# Altium integrated library Linear Technology Power Management Power-Over-Ethernet (PoE) Interface Controllers.IntLib: 174 symbols (part 11 of 16)
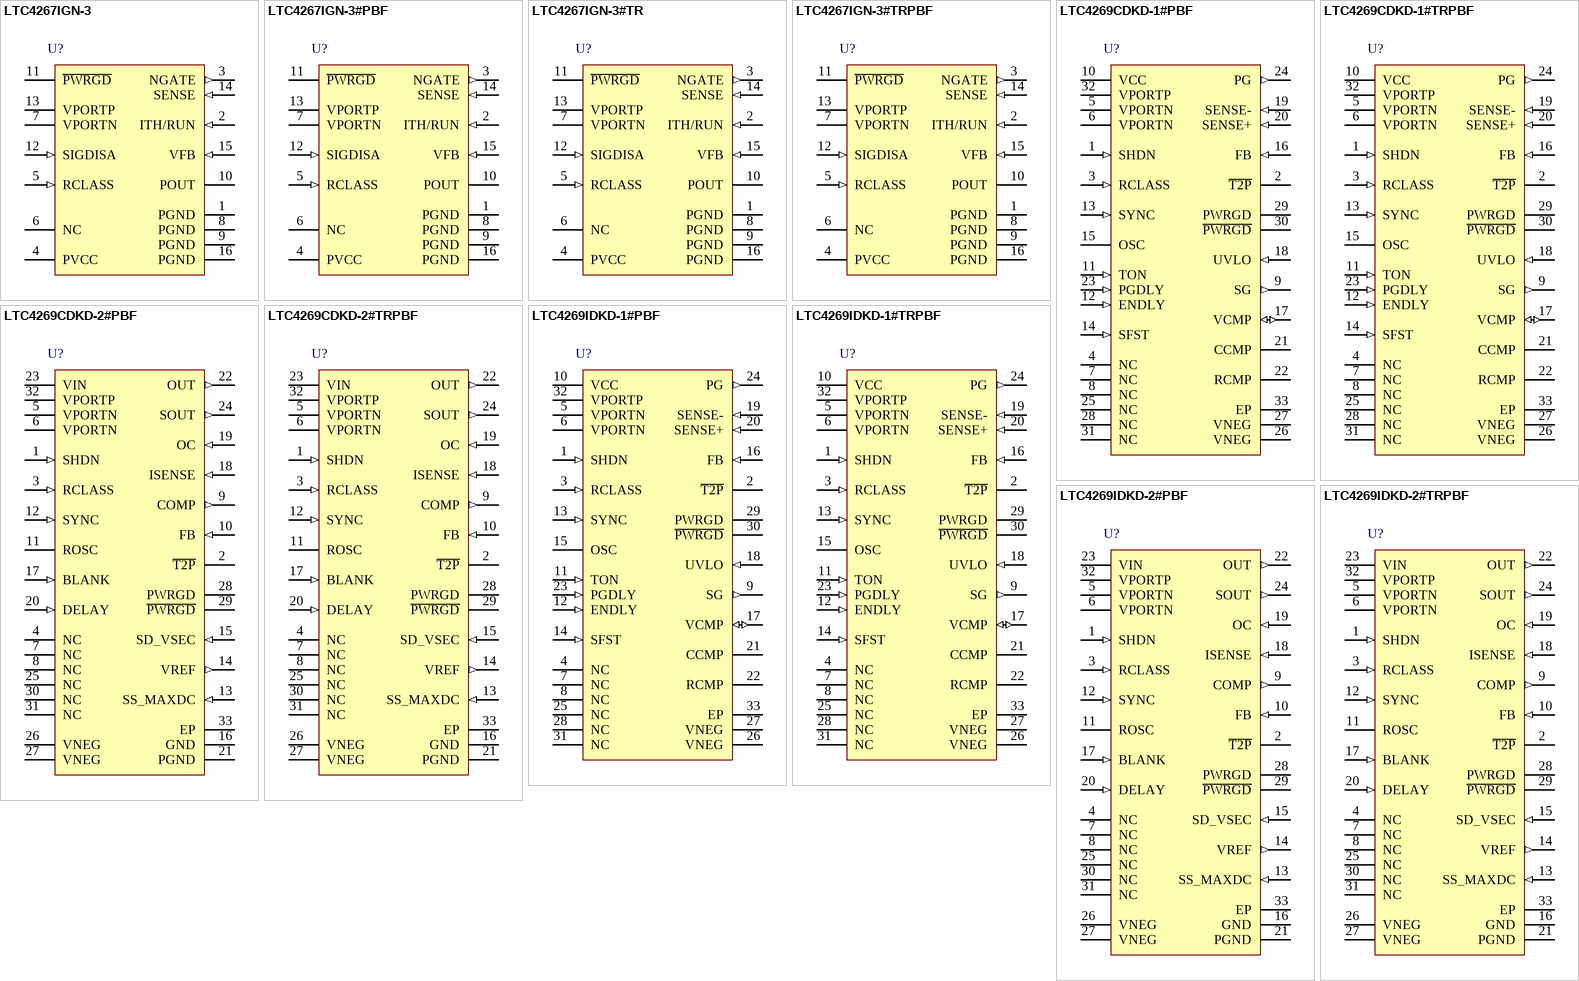
[diagram p18: symbols LTC4267IGN-3 to LTC4269IDKD-2#TRPBF]

## LTC4269IDKD-1#PBF
designator U?
IEEE 802.3at PD with Synchronous No-Opto Flyback Controller, 32-pin SON (DKD-32), -40 to 85 degC, Pb-Free; Manufacturer: Linear Technology; PartNumber: LTC4269IDKD-1#PBF; Channels(#): 1; Extended Temp: C, I; I2C Interface: yes; Max Power(W): 25.5; PoE Type: 2; DatasheetVersion: Rev. C; PackageVersion: Rev. A, 06/2010; PackageReference: DKD-32; PackageDescription: 32-Pin Plastic DFN, Body 7 x 4 mm, Pitch 0.4 mm; Supplier 1: Digi-Key; Supplier Part Number 1: LTC4269IDKD-1#PBF-ND; Supplier 2: Farnell; Supplier Part Number 2: 1761211; Supplier 3: Newark; Supplier Part Number 3: 24R3329; PSE/PD: PD; RoHS: TRUE; Mounting Technology: Surface Mount; Code_JEDEC: M0-229; ComponentLink1Description: Manufacturer URL; ComponentLink1URL: http://www.linear.com/; ComponentLink2Description: Datasheet; ComponentLink2URL: http://cds.linear.com/docs/en/datasheet/42691fc.pdf; ComponentLink3Description: Package Specification; ComponentLink3URL: http://cds.linear.com/docs/en/packaging/DFN_32_05-08-1734.pdf
footprint LT-DKD-32_V (SON, 32-Leads, Body 7x4mm, Pitch 0.4mm, Thermal Pad 6.43x2.65mm)
pins: 1 SHDN (in) "Shutdown Input. Use this pin for auxiliary power application. Drive SHDN high to disable the PD interface operation and corrupt the signature resistance. If unused, tie SHDN to VPORTN.", 2 ~{T2P} (oc) "Type-2 PSE Indicator, Open-Drain. Low impedance indicates the presence of a Type-2 PSE.", 3 RCLASS (in) "Class Select Input. Connect a resistor between RCLASS and VPORTN to set the classification load current. (see Table 2).", 4 NC "No Connect.", 5 VPORTN (power) "Power Input. Tie to the PD input through the diode bridge. Pins 5 and 6 must be electrically tied together at the package.", 6 VPORTN (power) "Power Input. Tie to the PD input through the diode bridge. Pins 5 and 6 must be electrically tied together at the package.", 7 NC "No Connect.", 8 NC "No Connect.", 9 SG (out) "Synchronous Gate Drive Output. This pin provides an output signal for a secondary-side synchronous rectifi er. Large dynamic currents may fl ow during voltage transitions. See the Applications Information section for details.", 10 VCC (power) "Supply Voltage Pin. Bypass this pin to GND with a 4.7uF, or more, capacitor. This pin has a 19.5V clamp to ground. VCC has an undervoltage lockout function that turns the part on when VCC is approximately 15.3V and off at 9.(See Datasheet)", 11 TON (in) "Pin for external programming resistor to set the minimum time that the primary switch is on for each cycle. Minimum turn-on facilitates the isolated feedback method. See the Applications Information section for details.", 12 ENDLY (in) "Pin for external programming resistor to set enable delay time. The enable delay time disables the feedback amplifi er for a fi xed time after the turn-off of the primary-side MOSFET. This allows the leakage inductance (See Datasheet)", 13 SYNC (in) "External Sync Input. This pin is used to synchronize the internal oscillator with an external clock. The positive edge of the clock causes the oscillator to discharge causing PG to go low (off) and SG high (on). The sync (See Datasheet)", 14 SFST (in) "Soft-Start. This pin, in conjunction with a capacitor (CSFST) to GND, controls the ramp-up of peak primary current through the sense resistor. It is also used to control converter inrush at start-up. The SFST clamps the VCMP (See Datasheet)", 15 OSC "Oscillator. This pin, in conjunction with an external capacitor (COSC) to GND, defi nes the controller oscillator frequency. The frequency is approximately 100kHz x 100/COSC (pF).", 16 FB (in) "Feedback Amplifi er Input. Feedback is usually sensed via a third winding and enabled during the fl yback period. This pin also sinks additional current to compensate for load current variation as set by the RCMP pin. Keep (See Datasheet)", 17 VCMP (io) "Frequency Compensation Control. VCMP is used for frequency compensation of the switcher control loop. It is the output of the feedback amplifi er and the input to the current comparator. Switcher frequency compensation (See Datasheet)", 18 UVLO (in) "Undervoltage Lockout. A resistive divider from VPORTP to this pin sets an undervoltage lockout based upon VPORTP level (not VCC). When the UVLO pin is below its threshold, the gate drives are disabled, but the part draws its (See Datasheet)", 19 SENSE- (in) "Current Sense Inputs. These pins are used to measure primary-side switch current through an external sense resistor. Peak primary-side current is used in the converter control loop. Make Kelvin connections to the sense (See Datasheet)", 20 SENSE+ (in) "Current Sense Inputs. These pins are used to measure primary-side switch current through an external sense resistor. Peak primary-side current is used in the converter control loop. Make Kelvin connections to the sense (See Datasheet)", 21 CCMP "Load Compensation Capacitive Control. Connect a capacitor from CCMP to GND in order to reduce the effects of parasitic resistances in the feedback sensing path. A 0.1uF ceramic capacitor suffi ces for most applications. (See Datasheet)", 22 RCMP "Load Compensation Resistive Control. Connect a resistor from RCMP to GND in order to compensate for parasitic resistances in the feedback sensing path. In less demanding applications, this resistor is not needed and this pin (See Datasheet)", 23 PGDLY (in) "Primary Gate Delay Control. Connect an external programming resistor (RPGDLY) to set delay from synchronous gate turn-off to primary gate turn-on. See the Applications Information section for details.", 24 PG (out) "Primary Gate Drive. PG is the gate drive pin for the primary-side MOSFET switch. Large dynamic currents flow during voltage transitions. See the Applications Information section for details.", 25 NC "No Connect.", 26 VNEG (power) "System Negative Rail. Connects VNEG to VPORTN through an internal power MOSFET. Pin 26 and Pin 27 must be electrically tied together at the package.", 27 VNEG (power) "System Negative Rail. Connects VNEG to VPORTN through an internal power MOSFET. Pin 26 and Pin 27 must be electrically tied together at the package.", 28 NC "No Connect.", 29 PWRGD (hiz) "Power Good Output, Open-Collector. High impedence signals power-up completion. PWRGD is referenced to VNEG and features a 14V clamp.", 30 ~{PWRGD} (oc) "Complementary Power Good Output, Open-Drain. Low impedance signals power-up completion. P\W\R\GD\ is referenced to VPORTN.", 31 NC "No Connect.", 32 VPORTP (power) "Positive Power Input. Tie to the input port power through the input diode bridge.", 33 EP (power) "Ground. This is the negative rail connection for both signal ground and gate driver grounds of the fl yback controller. This pin should be connected to VNEG."

## LTC4269IDKD-1#TRPBF
designator U?
IEEE 802.3at PD with Synchronous No-Opto Flyback Controller, 32-pin SON (DKD-32), -40 to 85 degC, Pb-Free, Tape and Reel; Manufacturer: Linear Technology; PartNumber: LTC4269IDKD-1#TRPBF; Channels(#): 1; Extended Temp: C, I; I2C Interface: yes; Max Power(W): 25.5; PoE Type: 2; DatasheetVersion: Rev. C; PackageVersion: Rev. A, 06/2010; PackageReference: DKD-32; PackageDescription: 32-Pin Plastic DFN, Body 7 x 4 mm, Pitch 0.4 mm; Supplier 1: Digi-Key; Supplier Part Number 1: LTC4269IDKD-1#TRPBF-ND; Supplier 2: Newark; Supplier Part Number 2: 25R2526; Packing: Tape and Reel; PSE/PD: PD; RoHS: TRUE; Mounting Technology: Surface Mount; Code_JEDEC: M0-229; ComponentLink1Description: Manufacturer URL; ComponentLink1URL: http://www.linear.com/; ComponentLink2Description: Datasheet; ComponentLink2URL: http://cds.linear.com/docs/en/datasheet/42691fc.pdf; ComponentLink3Description: Package Specification; ComponentLink3URL: http://cds.linear.com/docs/en/packaging/DFN_32_05-08-1734.pdf
footprint LT-DKD-32_V (SON, 32-Leads, Body 7x4mm, Pitch 0.4mm, Thermal Pad 6.43x2.65mm)
pins: 1 SHDN (in) "Shutdown Input. Use this pin for auxiliary power application. Drive SHDN high to disable the PD interface operation and corrupt the signature resistance. If unused, tie SHDN to VPORTN.", 2 ~{T2P} (oc) "Type-2 PSE Indicator, Open-Drain. Low impedance indicates the presence of a Type-2 PSE.", 3 RCLASS (in) "Class Select Input. Connect a resistor between RCLASS and VPORTN to set the classification load current. (see Table 2).", 4 NC "No Connect.", 5 VPORTN (power) "Power Input. Tie to the PD input through the diode bridge. Pins 5 and 6 must be electrically tied together at the package.", 6 VPORTN (power) "Power Input. Tie to the PD input through the diode bridge. Pins 5 and 6 must be electrically tied together at the package.", 7 NC "No Connect.", 8 NC "No Connect.", 9 SG (out) "Synchronous Gate Drive Output. This pin provides an output signal for a secondary-side synchronous rectifi er. Large dynamic currents may fl ow during voltage transitions. See the Applications Information section for details.", 10 VCC (power) "Supply Voltage Pin. Bypass this pin to GND with a 4.7uF, or more, capacitor. This pin has a 19.5V clamp to ground. VCC has an undervoltage lockout function that turns the part on when VCC is approximately 15.3V and off at 9.(See Datasheet)", 11 TON (in) "Pin for external programming resistor to set the minimum time that the primary switch is on for each cycle. Minimum turn-on facilitates the isolated feedback method. See the Applications Information section for details.", 12 ENDLY (in) "Pin for external programming resistor to set enable delay time. The enable delay time disables the feedback amplifi er for a fi xed time after the turn-off of the primary-side MOSFET. This allows the leakage inductance (See Datasheet)", 13 SYNC (in) "External Sync Input. This pin is used to synchronize the internal oscillator with an external clock. The positive edge of the clock causes the oscillator to discharge causing PG to go low (off) and SG high (on). The sync (See Datasheet)", 14 SFST (in) "Soft-Start. This pin, in conjunction with a capacitor (CSFST) to GND, controls the ramp-up of peak primary current through the sense resistor. It is also used to control converter inrush at start-up. The SFST clamps the VCMP (See Datasheet)", 15 OSC "Oscillator. This pin, in conjunction with an external capacitor (COSC) to GND, defi nes the controller oscillator frequency. The frequency is approximately 100kHz x 100/COSC (pF).", 16 FB (in) "Feedback Amplifi er Input. Feedback is usually sensed via a third winding and enabled during the fl yback period. This pin also sinks additional current to compensate for load current variation as set by the RCMP pin. Keep (See Datasheet)", 17 VCMP (io) "Frequency Compensation Control. VCMP is used for frequency compensation of the switcher control loop. It is the output of the feedback amplifi er and the input to the current comparator. Switcher frequency compensation (See Datasheet)", 18 UVLO (in) "Undervoltage Lockout. A resistive divider from VPORTP to this pin sets an undervoltage lockout based upon VPORTP level (not VCC). When the UVLO pin is below its threshold, the gate drives are disabled, but the part draws its (See Datasheet)", 19 SENSE- (in) "Current Sense Inputs. These pins are used to measure primary-side switch current through an external sense resistor. Peak primary-side current is used in the converter control loop. Make Kelvin connections to the sense (See Datasheet)", 20 SENSE+ (in) "Current Sense Inputs. These pins are used to measure primary-side switch current through an external sense resistor. Peak primary-side current is used in the converter control loop. Make Kelvin connections to the sense (See Datasheet)", 21 CCMP "Load Compensation Capacitive Control. Connect a capacitor from CCMP to GND in order to reduce the effects of parasitic resistances in the feedback sensing path. A 0.1uF ceramic capacitor suffi ces for most applications. (See Datasheet)", 22 RCMP "Load Compensation Resistive Control. Connect a resistor from RCMP to GND in order to compensate for parasitic resistances in the feedback sensing path. In less demanding applications, this resistor is not needed and this pin (See Datasheet)", 23 PGDLY (in) "Primary Gate Delay Control. Connect an external programming resistor (RPGDLY) to set delay from synchronous gate turn-off to primary gate turn-on. See the Applications Information section for details.", 24 PG (out) "Primary Gate Drive. PG is the gate drive pin for the primary-side MOSFET switch. Large dynamic currents flow during voltage transitions. See the Applications Information section for details.", 25 NC "No Connect.", 26 VNEG (power) "System Negative Rail. Connects VNEG to VPORTN through an internal power MOSFET. Pin 26 and Pin 27 must be electrically tied together at the package.", 27 VNEG (power) "System Negative Rail. Connects VNEG to VPORTN through an internal power MOSFET. Pin 26 and Pin 27 must be electrically tied together at the package.", 28 NC "No Connect.", 29 PWRGD (hiz) "Power Good Output, Open-Collector. High impedence signals power-up completion. PWRGD is referenced to VNEG and features a 14V clamp.", 30 ~{PWRGD} (oc) "Complementary Power Good Output, Open-Drain. Low impedance signals power-up completion. P\W\R\GD\ is referenced to VPORTN.", 31 NC "No Connect.", 32 VPORTP (power) "Positive Power Input. Tie to the input port power through the input diode bridge.", 33 EP (power) "Ground. This is the negative rail connection for both signal ground and gate driver grounds of the fl yback controller. This pin should be connected to VNEG."

## LTC4269IDKD-2#PBF
designator U?
IEEE 802.3at High Power PD and Synchronous Forward Controller with AUX Support, 32-pin SON (DKD-32), -40 to 85 degC, Pb-Free; Manufacturer: Linear Technology; PartNumber: LTC4269IDKD-2#PBF; Channels(#): 1; Extended Temp: C, I; I2C Interface: yes; Max Power(W): 25.5; PoE Type: 2; DatasheetVersion: Rev. B; PackageVersion: Rev. A, 06/2010; PackageReference: DKD-32; PackageDescription: 32-Pin Plastic DFN, Body 7 x 4 mm, Pitch 0.4 mm; Supplier 1: Digi-Key; Supplier Part Number 1: LTC4269IDKD-2#PBF-ND; Supplier 2: Farnell; Supplier Part Number 2: 1761212; Supplier 3: Newark; Supplier Part Number 3: 24R3330; PSE/PD: PD; RoHS: TRUE; Mounting Technology: Surface Mount; Code_JEDEC: M0-229; ComponentLink1Description: Manufacturer URL; ComponentLink1URL: http://www.linear.com/; ComponentLink2Description: Datasheet; ComponentLink2URL: http://cds.linear.com/docs/en/datasheet/42692fb.pdf; ComponentLink3Description: Package Specification; ComponentLink3URL: http://cds.linear.com/docs/en/packaging/DFN_32_05-08-1734.pdf
footprint LT-DKD-32_V (SON, 32-Leads, Body 7x4mm, Pitch 0.4mm, Thermal Pad 6.43x2.65mm)
pins: 1 SHDN (in) "Shutdown Input. Use this pin for auxiliary power application. Drive SHDN high to disable LTC4269-2 operation and corrupt the signature resistance. If unused, tie SHDN to VPORTN.", 2 ~{T2P} (oc) "Type-2 PSE Indicator, Open-Drain. Low impedance indicates the presence of a Type-2 PSE.", 3 RCLASS (in) "Class Select Input. Connect a resistor between RCLASS and VPORTN to set the classification load current.", 4 NC "No Connect.", 5 VPORTN (power) "Power Input. Tie to the PD input through the diode bridge. Pins 5 and 6 must be electrically tied together at the package.", 6 VPORTN (power) "Power Input. Tie to the PD input through the diode bridge. Pins 5 and 6 must be electrically tied together at the package.", 7 NC "No Connect.", 8 NC "No Connect.", 9 COMP (out) "Output Pin of the Error Amplifier. The error amplifier is an op amp, allowing various compensation networks to be connected between the COMP pin and FB pin for optimum transient response in a nonisolated supply. The voltage (See Datasheet)", 10 FB (in) "In a nonisolated supply, FB monitors the output voltage via an external resistor divider and is compared with an internal 1.23V reference by the error amplifier. FB connected to VREF disables error amplifier output.", 11 ROSC "A resistor to GND programs the operating frequency of the IC between 100kHz and 500kHz. Nominal voltage on the ROSC pin is 1.0V.", 12 SYNC (in) "Used to synchronize the internal oscillator to an external signal. It is directly logic compatible and can be driven with any signal between 10% and 90% duty cycle. If unused, the pin should be connected to GND.", 13 SS_MAXDC (in) "The external resistor divider from VREF sets the maximum duty cycle clamp (SS_MAXDC = 1.84V, SD_VSEC = 1.32V gives 72% duty cycle). Capacitor on SS_MAXDC pin in combination with external resistor divider sets soft-start (See Datasheet)", 14 VREF (out) "The output of an internal 2.5V reference which supplies internal control circuitry. Capable of sourcing up to 2.5mA drive for external use. Bypass to GND with a 0.1uF ceramic capacitor.", 15 SD_VSEC (in) "The SD_VSEC pin, when pulled below its accurate 1.32V threshold, is used to turn off the IC and reduce current drain from VIN. The SD_VSEC pin is connected to system input voltage through a resistor divider to define (See Datasheet)", 16 GND (power) "Analog Ground. Tie to VNEG.", 17 BLANK (in) "A resistor to GND adjusts the extended blanking period of the overcurrent and current sense amplifier outputs during FET turn-on-to prevent false current limit trip. Increasing the resistor value increases the blanking (See Datasheet)", 18 ISENSE (in) "The Current Sense Input for the Control Loop. Connect this pin to the sense resistor in the source of the external power MOSFET. A resistor in series with the ISENSE pin programs slope compensation.", 19 OC (in) "OC is an accurate 107mV threshold, independent of duty cycle, for overcurrent detection and trigger of soft-start. Connect this pin directly to the sense resistor in the source of the external power MOSFET.", 20 DELAY (in) "A resistor to GND adjusts the delay period between SOUT rising edge and OUT rising edge. Used to maximize efficiency in forward converter applications by adjusting the timing. Increasing the resistor value increases the (See Datasheet)", 21 PGND (power) "Power Ground. Carries the gate driver’s return current. Tie to VNEG.", 22 OUT (out) "Drives the gate of an N-channel MOSFET between 0V and VIN with a maximum limit of 13V on OUT pin set by an internal clamp. Active pull-off exists in shutdown (see electrical specification).", 23 VIN (power) "Input Supply for the Power Supply Controller. It must be closely decoupled to GND. An internal undervoltage lockout threshold exists for VIN at approximately 14.25V on and 8.75V off.", 24 SOUT (out) "Switched Output in Phase with OUT Pin. Provides sync signal for control of secondary-side FETs in forward converter applications requiring highly efficient synchronous rectification. SOUT is actively clamped to 12V. Active (See Datasheet)", 25 NC "No Connect.", 26 VNEG (power) "Power Output. Connects the PoE return line to the power supply through the internal Hot Swap power MOSFET. Pins 26 and 27 must be electrically tied together at the package.", 27 VNEG (power) "Power Output. Connects the PoE return line to the power supply through the internal Hot Swap power MOSFET. Pins 26 and 27 must be electrically tied together at the package.", 28 PWRGD (hiz) "Active High Power Good Output, Open Collector. Signals that the internal Hot Swap MOSFET is on. High Impedance indicates power is good. PWRGD is referenced to VNEG and is low impedance during inrush and in the event of (See Datasheet)", 29 ~{PWRGD} (hiz) "Active Low Power Good Output, Open Drain. Signals that the internal Hot Swap MOSFET is on. Low Impedance indicates power is good. P\W\R\G\D\ is referenced to VPORTN and is high impedance during inrush and in the event of (See Datasheet)", 30 NC "No Connect.", 31 NC "No Connect.", 32 VPORTP (power) "Input Voltage Positive Rail. This pin is connected to the PD’s positive rail.", 33 EP (power) "Tie to GND and PCB heat sink."

## LTC4269IDKD-2#TRPBF
designator U?
IEEE 802.3at High Power PD and Synchronous Forward Controller with AUX Support, 32-pin SON (DKD-32), -40 to 85 degC, Pb-Free, Tape and Reel; Manufacturer: Linear Technology; PartNumber: LTC4269IDKD-2#TRPBF; Channels(#): 1; Extended Temp: C, I; I2C Interface: yes; Max Power(W): 25.5; PoE Type: 2; DatasheetVersion: Rev. B; PackageVersion: Rev. A, 06/2010; PackageReference: DKD-32; PackageDescription: 32-Pin Plastic DFN, Body 7 x 4 mm, Pitch 0.4 mm; Supplier 1: Digi-Key; Supplier Part Number 1: LTC4269IDKD-2#TRPBF-ND; Packing: Tape and Reel; PSE/PD: PD; RoHS: TRUE; Mounting Technology: Surface Mount; Code_JEDEC: M0-229; ComponentLink1Description: Manufacturer URL; ComponentLink1URL: http://www.linear.com/; ComponentLink2Description: Datasheet; ComponentLink2URL: http://cds.linear.com/docs/en/datasheet/42692fb.pdf; ComponentLink3Description: Package Specification; ComponentLink3URL: http://cds.linear.com/docs/en/packaging/DFN_32_05-08-1734.pdf
footprint LT-DKD-32_V (SON, 32-Leads, Body 7x4mm, Pitch 0.4mm, Thermal Pad 6.43x2.65mm)
pins: 1 SHDN (in) "Shutdown Input. Use this pin for auxiliary power application. Drive SHDN high to disable LTC4269-2 operation and corrupt the signature resistance. If unused, tie SHDN to VPORTN.", 2 ~{T2P} (oc) "Type-2 PSE Indicator, Open-Drain. Low impedance indicates the presence of a Type-2 PSE.", 3 RCLASS (in) "Class Select Input. Connect a resistor between RCLASS and VPORTN to set the classification load current.", 4 NC "No Connect.", 5 VPORTN (power) "Power Input. Tie to the PD input through the diode bridge. Pins 5 and 6 must be electrically tied together at the package.", 6 VPORTN (power) "Power Input. Tie to the PD input through the diode bridge. Pins 5 and 6 must be electrically tied together at the package.", 7 NC "No Connect.", 8 NC "No Connect.", 9 COMP (out) "Output Pin of the Error Amplifier. The error amplifier is an op amp, allowing various compensation networks to be connected between the COMP pin and FB pin for optimum transient response in a nonisolated supply. The voltage (See Datasheet)", 10 FB (in) "In a nonisolated supply, FB monitors the output voltage via an external resistor divider and is compared with an internal 1.23V reference by the error amplifier. FB connected to VREF disables error amplifier output.", 11 ROSC "A resistor to GND programs the operating frequency of the IC between 100kHz and 500kHz. Nominal voltage on the ROSC pin is 1.0V.", 12 SYNC (in) "Used to synchronize the internal oscillator to an external signal. It is directly logic compatible and can be driven with any signal between 10% and 90% duty cycle. If unused, the pin should be connected to GND.", 13 SS_MAXDC (in) "The external resistor divider from VREF sets the maximum duty cycle clamp (SS_MAXDC = 1.84V, SD_VSEC = 1.32V gives 72% duty cycle). Capacitor on SS_MAXDC pin in combination with external resistor divider sets soft-start (See Datasheet)", 14 VREF (out) "The output of an internal 2.5V reference which supplies internal control circuitry. Capable of sourcing up to 2.5mA drive for external use. Bypass to GND with a 0.1uF ceramic capacitor.", 15 SD_VSEC (in) "The SD_VSEC pin, when pulled below its accurate 1.32V threshold, is used to turn off the IC and reduce current drain from VIN. The SD_VSEC pin is connected to system input voltage through a resistor divider to define (See Datasheet)", 16 GND (power) "Analog Ground. Tie to VNEG.", 17 BLANK (in) "A resistor to GND adjusts the extended blanking period of the overcurrent and current sense amplifier outputs during FET turn-on-to prevent false current limit trip. Increasing the resistor value increases the blanking (See Datasheet)", 18 ISENSE (in) "The Current Sense Input for the Control Loop. Connect this pin to the sense resistor in the source of the external power MOSFET. A resistor in series with the ISENSE pin programs slope compensation.", 19 OC (in) "OC is an accurate 107mV threshold, independent of duty cycle, for overcurrent detection and trigger of soft-start. Connect this pin directly to the sense resistor in the source of the external power MOSFET.", 20 DELAY (in) "A resistor to GND adjusts the delay period between SOUT rising edge and OUT rising edge. Used to maximize efficiency in forward converter applications by adjusting the timing. Increasing the resistor value increases the (See Datasheet)", 21 PGND (power) "Power Ground. Carries the gate driver’s return current. Tie to VNEG.", 22 OUT (out) "Drives the gate of an N-channel MOSFET between 0V and VIN with a maximum limit of 13V on OUT pin set by an internal clamp. Active pull-off exists in shutdown (see electrical specification).", 23 VIN (power) "Input Supply for the Power Supply Controller. It must be closely decoupled to GND. An internal undervoltage lockout threshold exists for VIN at approximately 14.25V on and 8.75V off.", 24 SOUT (out) "Switched Output in Phase with OUT Pin. Provides sync signal for control of secondary-side FETs in forward converter applications requiring highly efficient synchronous rectification. SOUT is actively clamped to 12V. Active (See Datasheet)", 25 NC "No Connect.", 26 VNEG (power) "Power Output. Connects the PoE return line to the power supply through the internal Hot Swap power MOSFET. Pins 26 and 27 must be electrically tied together at the package.", 27 VNEG (power) "Power Output. Connects the PoE return line to the power supply through the internal Hot Swap power MOSFET. Pins 26 and 27 must be electrically tied together at the package.", 28 PWRGD (hiz) "Active High Power Good Output, Open Collector. Signals that the internal Hot Swap MOSFET is on. High Impedance indicates power is good. PWRGD is referenced to VNEG and is low impedance during inrush and in the event of (See Datasheet)", 29 ~{PWRGD} (hiz) "Active Low Power Good Output, Open Drain. Signals that the internal Hot Swap MOSFET is on. Low Impedance indicates power is good. P\W\R\G\D\ is referenced to VPORTN and is high impedance during inrush and in the event of (See Datasheet)", 30 NC "No Connect.", 31 NC "No Connect.", 32 VPORTP (power) "Input Voltage Positive Rail. This pin is connected to the PD’s positive rail.", 33 EP (power) "Tie to GND and PCB heat sink."

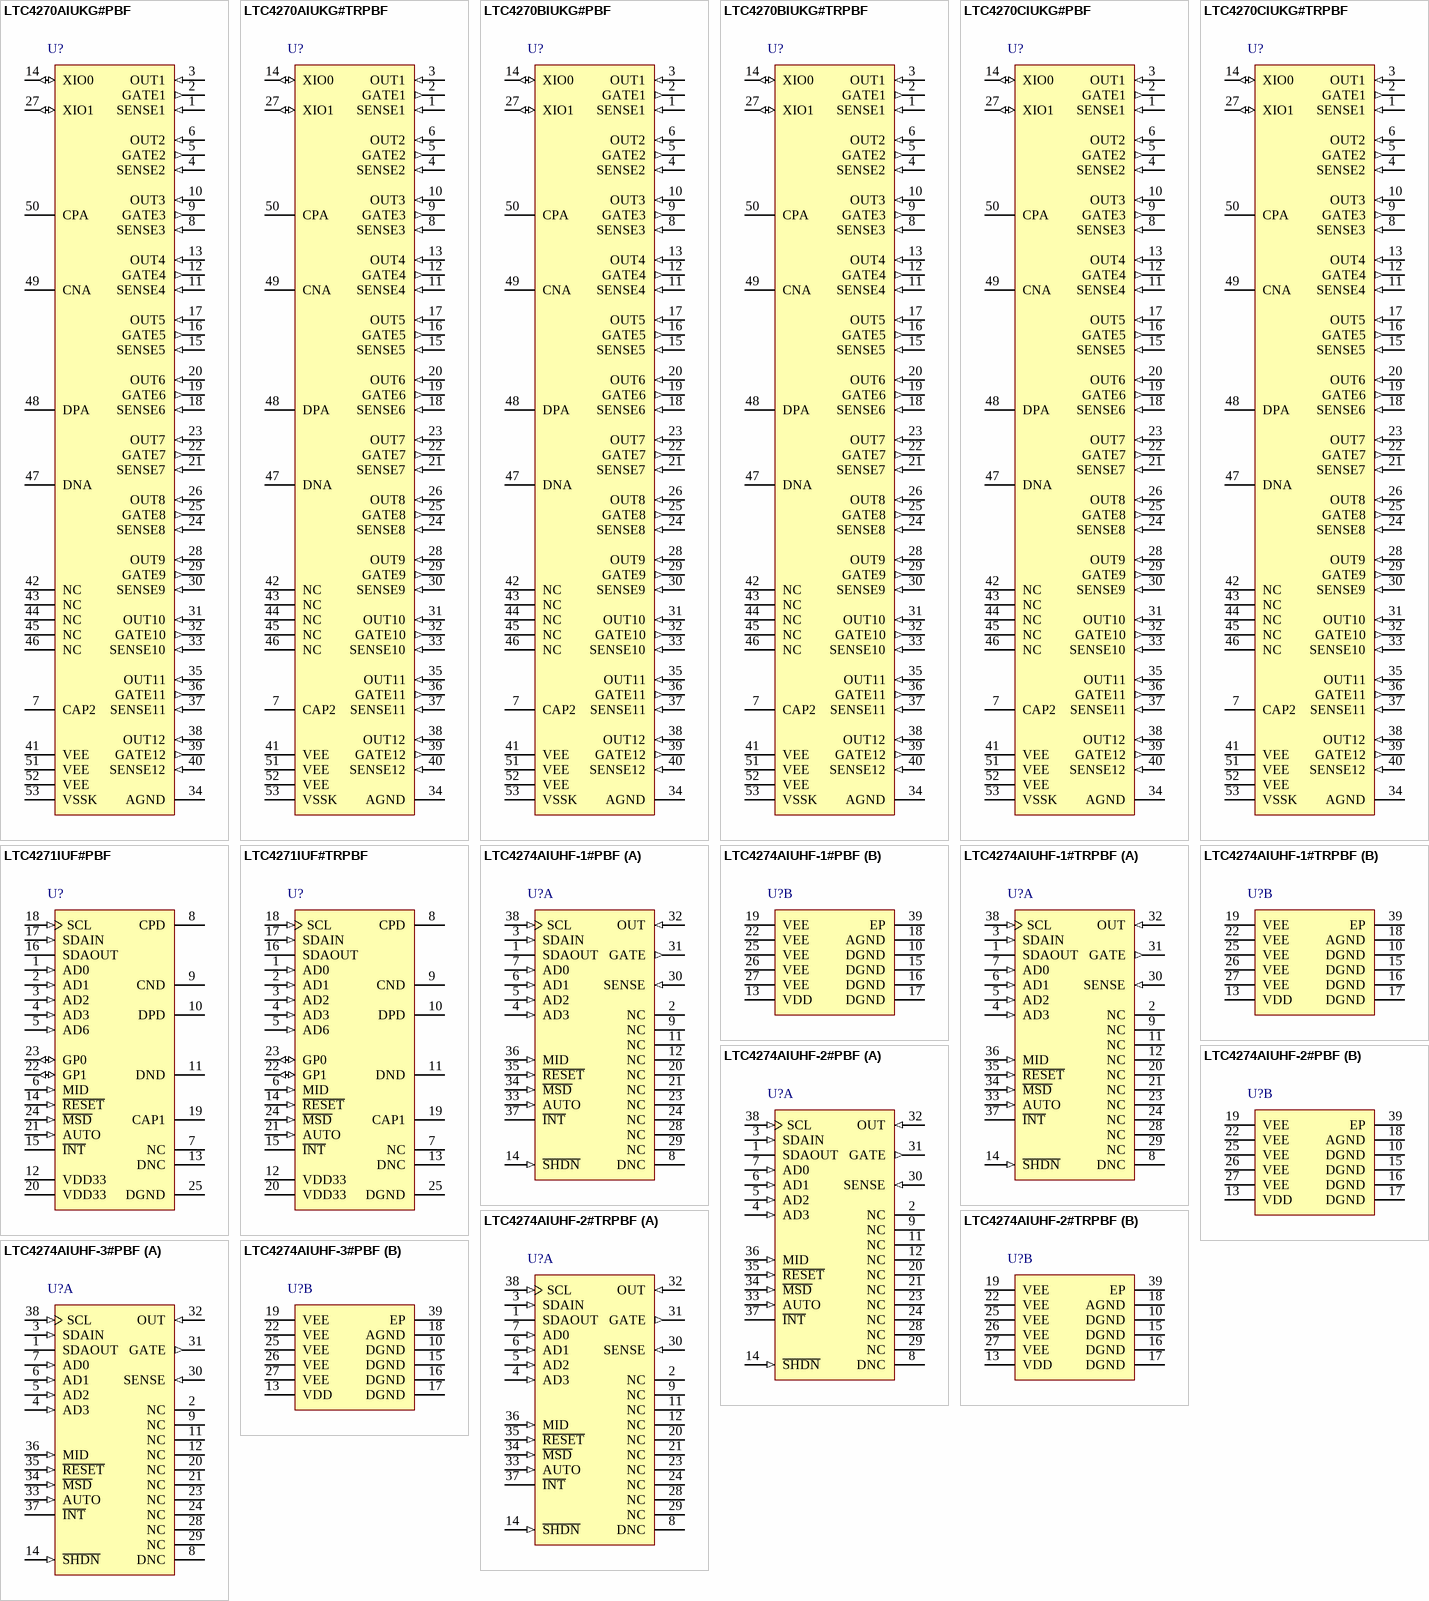
[diagram p6: symbols LTC4270AIUKG#PBF to LTC4274AIUHF-3#PBF]

## LTC4270AIUKG#PBF
designator U?
12-Port PoE / PoE+ / LTPoE++ PSE Controller, 52-pin QFN (UKG-52), -40 to 85 degC, Pb-Free; Manufacturer: Linear Technology; PartNumber: LTC4270AIUKG#PBF; Channels(#): 12; Extended Temp: I; I2C Interface: yes; Max Power(W): 90; PoE Type: 1, 2, LTPoE++; DatasheetVersion: Rev. C; PackageVersion: Rev. Ø, 06/2010; PackageReference: UKG-52; PackageDescription: 52-Pin Plastic QFN, Body 8 x 7 mm, Pitch 0.5 mm; Supplier 1: Digi-Key; Supplier Part Number 1: LTC4270AIUKG#PBF-ND; Supplier 2: Farnell; Supplier Part Number 2: 2293150; Supplier 3: Newark; Supplier Part Number 3: 59T5708; PSE/PD: PSE; RoHS: TRUE; Mounting Technology: Surface Mount; ComponentLink1Description: Manufacturer URL; ComponentLink1URL: http://www.linear.com/; ComponentLink2Description: Datasheet; ComponentLink2URL: http://cds.linear.com/docs/en/datasheet/42701fc.pdf; ComponentLink3Description: Package Specification; ComponentLink3URL: http://cds.linear.com/docs/en/packaging/QFN_52_05-08-1729.pdf
footprint LT-UKG-52_N (QFN, 52-Leads, Body 8.1x7.1mm, Pitch 0.5mm, Thermal Pad 6.45x5.41mm, IPC Medium Density)
footprint LT-UKG-52_L (QFN, 52-Leads, Body 8.1x7.1mm, Pitch 0.5mm, Thermal Pad 6.45x5.41mm, IPC High Density)
footprint LT-UKG-52_M (QFN, 52-Leads, Body 8.1x7.1mm, Pitch 0.5mm, Thermal Pad 6.45x5.41mm, IPC Low Density)
pins: 1 SENSE1 (in) "Port n Current Sense Input. SENSEn monitors the external MOSFET current via a 0.5ohm or 0.25ohm sense resistor between SENSEn and VEE. Whenever the voltage across the sense resistor exceeds the overcurrent detection (See Datasheet)", 2 GATE1 (out) "Port n Gate Drive. GATEn should be connected to the gate of the external MOSFET for port n. When the MOSFET is turned on, the gate voltage is driven to 12V (typ) above VEE. During a current limit condition, the voltage at (See Datasheet)", 3 OUT1 (in) "Port n Output Voltage Monitor. OUTn should be connected to the output port. A current limit foldback circuit limits the power dissipation in the external MOSFET by reducing the current limit threshold when the (See Datasheet)", 4 SENSE2 (in) "Port n Current Sense Input. SENSEn monitors the external MOSFET current via a 0.5ohm or 0.25ohm sense resistor between SENSEn and VEE. Whenever the voltage across the sense resistor exceeds the overcurrent detection (See Datasheet)", 5 GATE2 (out) "Port n Gate Drive. GATEn should be connected to the gate of the external MOSFET for port n. When the MOSFET is turned on, the gate voltage is driven to 12V (typ) above VEE. During a current limit condition, the voltage at (See Datasheet)", 6 OUT2 (in) "Port n Output Voltage Monitor. OUTn should be connected to the output port. A current limit foldback circuit limits the power dissipation in the external MOSFET by reducing the current limit threshold when the (See Datasheet)", 7 CAP2 "Analog Internal 4.3V Power Supply Bypass Capacitor. Connect 0.1uF ceramic cap to VEE.", 8 SENSE3 (in) "Port n Current Sense Input. SENSEn monitors the external MOSFET current via a 0.5ohm or 0.25ohm sense resistor between SENSEn and VEE. Whenever the voltage across the sense resistor exceeds the overcurrent detection (See Datasheet)", 9 GATE3 (out) "Port n Gate Drive. GATEn should be connected to the gate of the external MOSFET for port n. When the MOSFET is turned on, the gate voltage is driven to 12V (typ) above VEE. During a current limit condition, the voltage at (See Datasheet)", 10 OUT3 (in) "Port n Output Voltage Monitor. OUTn should be connected to the output port. A current limit foldback circuit limits the power dissipation in the external MOSFET by reducing the current limit threshold when the (See Datasheet)", 11 SENSE4 (in) "Port n Current Sense Input. SENSEn monitors the external MOSFET current via a 0.5ohm or 0.25ohm sense resistor between SENSEn and VEE. Whenever the voltage across the sense resistor exceeds the overcurrent detection (See Datasheet)", 12 GATE4 (out) "Port n Gate Drive. GATEn should be connected to the gate of the external MOSFET for port n. When the MOSFET is turned on, the gate voltage is driven to 12V (typ) above VEE. During a current limit condition, the voltage at (See Datasheet)", 13 OUT4 (in) "Port n Output Voltage Monitor. OUTn should be connected to the output port. A current limit foldback circuit limits the power dissipation in the external MOSFET by reducing the current limit threshold when the (See Datasheet)", 14 XIO0 (io) "General Purpose Digital Input Output. Logic signal between VEE and VEE + 4.3V. Internal pull up.", 15 SENSE5 (in) "Port n Current Sense Input. SENSEn monitors the external MOSFET current via a 0.5ohm or 0.25ohm sense resistor between SENSEn and VEE. Whenever the voltage across the sense resistor exceeds the overcurrent detection (See Datasheet)", 16 GATE5 (out) "Port n Gate Drive. GATEn should be connected to the gate of the external MOSFET for port n. When the MOSFET is turned on, the gate voltage is driven to 12V (typ) above VEE. During a current limit condition, the voltage at (See Datasheet)", 17 OUT5 (in) "Port n Output Voltage Monitor. OUTn should be connected to the output port. A current limit foldback circuit limits the power dissipation in the external MOSFET by reducing the current limit threshold when the (See Datasheet)", 18 SENSE6 (in) "Port n Current Sense Input. SENSEn monitors the external MOSFET current via a 0.5ohm or 0.25ohm sense resistor between SENSEn and VEE. Whenever the voltage across the sense resistor exceeds the overcurrent detection (See Datasheet)", 19 GATE6 (out) "Port n Gate Drive. GATEn should be connected to the gate of the external MOSFET for port n. When the MOSFET is turned on, the gate voltage is driven to 12V (typ) above VEE. During a current limit condition, the voltage at (See Datasheet)", 20 OUT6 (in) "Port n Output Voltage Monitor. OUTn should be connected to the output port. A current limit foldback circuit limits the power dissipation in the external MOSFET by reducing the current limit threshold when the (See Datasheet)", 21 SENSE7 (in) "Port n Current Sense Input. SENSEn monitors the external MOSFET current via a 0.5ohm or 0.25ohm sense resistor between SENSEn and VEE. Whenever the voltage across the sense resistor exceeds the overcurrent detection (See Datasheet)", 22 GATE7 (out) "Port n Gate Drive. GATEn should be connected to the gate of the external MOSFET for port n. When the MOSFET is turned on, the gate voltage is driven to 12V (typ) above VEE. During a current limit condition, the voltage at (See Datasheet)", 23 OUT7 (in) "Port n Output Voltage Monitor. OUTn should be connected to the output port. A current limit foldback circuit limits the power dissipation in the external MOSFET by reducing the current limit threshold when the (See Datasheet)", 24 SENSE8 (in) "Port n Current Sense Input. SENSEn monitors the external MOSFET current via a 0.5ohm or 0.25ohm sense resistor between SENSEn and VEE. Whenever the voltage across the sense resistor exceeds the overcurrent detection (See Datasheet)", 25 GATE8 (out) "Port n Gate Drive. GATEn should be connected to the gate of the external MOSFET for port n. When the MOSFET is turned on, the gate voltage is driven to 12V (typ) above VEE. During a current limit condition, the voltage at (See Datasheet)", 26 OUT8 (in) "Port n Output Voltage Monitor. OUTn should be connected to the output port. A current limit foldback circuit limits the power dissipation in the external MOSFET by reducing the current limit threshold when the (See Datasheet)", 27 XIO1 (io) "General Purpose Digital Input Output. Logic signal between VEE and VEE + 4.3V. Internal pull up.", 28 OUT9 (in) "Port n Output Voltage Monitor. OUTn should be connected to the output port. A current limit foldback circuit limits the power dissipation in the external MOSFET by reducing the current limit threshold when the (See Datasheet)", 29 GATE9 (out) "Port n Gate Drive. GATEn should be connected to the gate of the external MOSFET for port n. When the MOSFET is turned on, the gate voltage is driven to 12V (typ) above VEE. During a current limit condition, the voltage at (See Datasheet)", 30 SENSE9 (in) "Port n Current Sense Input. SENSEn monitors the external MOSFET current via a 0.5ohm or 0.25ohm sense resistor between SENSEn and VEE. Whenever the voltage across the sense resistor exceeds the overcurrent detection (See Datasheet)", 31 OUT10 (in) "Port n Output Voltage Monitor. OUTn should be connected to the output port. A current limit foldback circuit limits the power dissipation in the external MOSFET by reducing the current limit threshold when the (See Datasheet)", 32 GATE10 (out) "Port n Gate Drive. GATEn should be connected to the gate of the external MOSFET for port n. When the MOSFET is turned on, the gate voltage is driven to 12V (typ) above VEE. During a current limit condition, the voltage at (See Datasheet)", 33 SENSE10 (in) "Port n Current Sense Input. SENSEn monitors the external MOSFET current via a 0.5ohm or 0.25ohm sense resistor between SENSEn and VEE. Whenever the voltage across the sense resistor exceeds the overcurrent detection (See Datasheet)", 34 AGND (power) "Analog Ground. Connect AGND to the return for the VEE supply.", 35 OUT11 (in) "Port n Output Voltage Monitor. OUTn should be connected to the output port. A current limit foldback circuit limits the power dissipation in the external MOSFET by reducing the current limit threshold when the (See Datasheet)", 36 GATE11 (out) "Port n Gate Drive. GATEn should be connected to the gate of the external MOSFET for port n. When the MOSFET is turned on, the gate voltage is driven to 12V (typ) above VEE. During a current limit condition, the voltage at (See Datasheet)", 37 SENSE11 (in) "Port n Current Sense Input. SENSEn monitors the external MOSFET current via a 0.5ohm or 0.25ohm sense resistor between SENSEn and VEE. Whenever the voltage across the sense resistor exceeds the overcurrent detection (See Datasheet)", 38 OUT12 (in) "Port n Output Voltage Monitor. OUTn should be connected to the output port. A current limit foldback circuit limits the power dissipation in the external MOSFET by reducing the current limit threshold when the (See Datasheet)", 39 GATE12 (out) "Port n Gate Drive. GATEn should be connected to the gate of the external MOSFET for port n. When the MOSFET is turned on, the gate voltage is driven to 12V (typ) above VEE. During a current limit condition, the voltage at (See Datasheet)", 40 SENSE12 (in) "Port n Current Sense Input. SENSEn monitors the external MOSFET current via a 0.5ohm or 0.25ohm sense resistor between SENSEn and VEE. Whenever the voltage across the sense resistor exceeds the overcurrent detection (See Datasheet)", 41 VEE (power) "Main PoE Supply Input. Connect to a -45V to -57V supply, relative to AGND. Voltage depends on PSE type (Type 1, Type 2 or LTPoE++.)", 42 NC "All pins identified with "NC" or "DNC" must be left unconnected.", 43 NC "All pins identified with "NC" or "DNC" must be left unconnected.", 44 NC "All pins identified with "NC" or "DNC" must be left unconnected.", 45 NC "All pins identified with "NC" or "DNC" must be left unconnected.", 46 NC "All pins identified with "NC" or "DNC" must be left unconnected.", 47 DNA "Data Transceiver Negative Input Output (Analog). Connect to DND through a data transformer.", 48 DPA "Data Transceiver Positive Input Output (Analog). Connect to DPD through a data transformer.", 49 CNA "Clock Transceiver Negative Input Output (Analog). Connect to CND through a data transformer.", 50 CPA "Clock Transceiver Positive Input Output (Analog). Connect to CPD through a data transformer.", 51 VEE (power) "Main PoE Supply Input. Connect to a -45V to -57V supply, relative to AGND. Voltage depends on PSE type (Type 1, Type 2 or LTPoE++.)", 52 VEE (power) "Main PoE Supply Input. Connect to a -45V to -57V supply, relative to AGND. Voltage depends on PSE type (Type 1, Type 2 or LTPoE++.)", 53 VSSK (power) "Kelvin Sense to VEE. Connect to sense resistor common node. Do not connect directly to VEE plane. See Layout Guide."